# Altium schematic symbol library CAP 0.47uF 35V.Schlib: 1 symbol
Pins are listed as number, name and electrical type; pins without a type are passive.

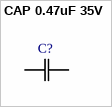
[diagram p0: symbol CAP 0.47uF 35V]

## CAP 0.47uF 35V
designator C?
CAP CER 0.47UF 35V X7R 0603/0805
pins: 1 C1, 2 C2